# EAGLE library part ISM330DLCTR (library ISM330DLCTR)
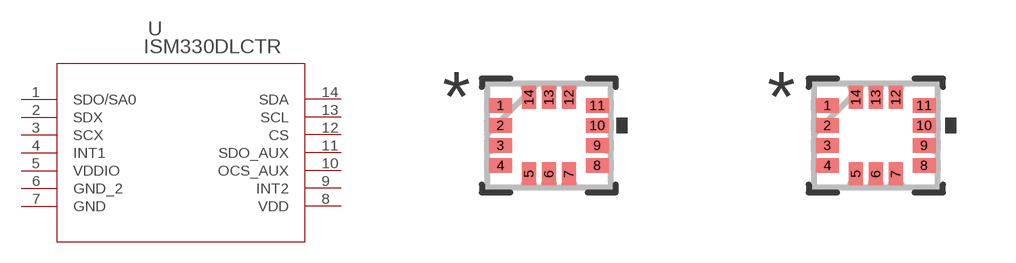
[diagram p0: symbol with the pads of LGA-14L_2P5X3X0P83_STM; footprints LGA-14L_2P5X3X0P83_STM, LGA-14L_2P5X3X0P83_STM-M]

Designator prefix U

## ISM330DLCTR (BUILT_BY: EMA_Cory; COPYRIGHT: Copyright (C) 2018 Accelerated Designs. All rights reserved; DATASHEET: https://www.st.com/resource/en/datasheet/ism330dlc.pdf; MANUFACTURER_PART_NUMBER: ISM330DLCTR; SOURCELIBRARY: Update_to_database_2021-06-01; VENDOR: STMicroelectronics)  [LGA-14L_2P5X3X0P83_STM]
1  SDO/SA0
2  SDX  pas
3  SCX  pas
4  INT1  out
5  VDDIO  pwr
6  GND_2  pas
7  GND  pas
8  VDD  pwr
9  INT2  out
10  OCS_AUX  pas
11  SDO_AUX  pas
12  CS  in
13  SCL  in
14  SDA

## ISM330DLCTRLGA-14L_2P5X3X0P83_STM-M (BUILT_BY: EMA_Cory; COPYRIGHT: Copyright (C) 2018 Accelerated Designs. All rights reserved; DATASHEET: https://www.st.com/resource/en/datasheet/ism330dlc.pdf; MANUFACTURER_PART_NUMBER: ISM330DLCTR; SOURCELIBRARY: Update_to_database_2021-06-01; VENDOR: STMicroelectronics)  [LGA-14L_2P5X3X0P83_STM-M]
Pads as for LGA-14L_2P5X3X0P83_STM

## ISM330DLCTRLGA-14L_2P5X3X0P83_STM-L (BUILT_BY: EMA_Cory; COPYRIGHT: Copyright (C) 2018 Accelerated Designs. All rights reserved; DATASHEET: https://www.st.com/resource/en/datasheet/ism330dlc.pdf; MANUFACTURER_PART_NUMBER: ISM330DLCTR; SOURCELIBRARY: Update_to_database_2021-06-01; VENDOR: STMicroelectronics)  [LGA-14L_2P5X3X0P83_STM-L]
Pads as for LGA-14L_2P5X3X0P83_STM

## Footprint LGA-14L_2P5X3X0P83_STM (pad centres in mm)
smd 0.577 x 0.352: 1 -1.21,0.75; 2 -1.21,0.25; 3 -1.21,-0.25; 4 -1.21,-0.75; 8 1.21,-0.75; 9 1.21,-0.25; 10 1.21,0.25; 11 1.21,0.75
smd 0.352 x 0.577: 5 -0.5,-0.956; 6 0,-0.956; 7 0.5,-0.956; 12 0.5,0.956; 13 0,0.956; 14 -0.5,0.956

## Footprint LGA-14L_2P5X3X0P83_STM-M (pad centres in mm)
smd 0.577 x 0.352: 1 -1.21,0.75; 2 -1.21,0.25; 3 -1.21,-0.25; 4 -1.21,-0.75; 8 1.21,-0.75; 9 1.21,-0.25; 10 1.21,0.25; 11 1.21,0.75
smd 0.352 x 0.577: 5 -0.5,-0.956; 6 0,-0.956; 7 0.5,-0.956; 12 0.5,0.956; 13 0,0.956; 14 -0.5,0.956

## Footprint LGA-14L_2P5X3X0P83_STM-L (pad centres in mm)
smd 0.577 x 0.352: 1 -1.21,0.75; 2 -1.21,0.25; 3 -1.21,-0.25; 4 -1.21,-0.75; 8 1.21,-0.75; 9 1.21,-0.25; 10 1.21,0.25; 11 1.21,0.75
smd 0.352 x 0.577: 5 -0.5,-0.956; 6 0,-0.956; 7 0.5,-0.956; 12 0.5,0.956; 13 0,0.956; 14 -0.5,0.956